# Altium footprint library Antenna.PcbLib: 2 footprints
Each footprint in its own frame and in the unit in brackets; x right, y up, seen from the top. Pads: shape width x height; smd on the part's side, far side on the other; paste and mask are expansions set on the pad; w line width, h text height; cw(c..) or ccw(c..) is an arc to the next point about the centre after c.
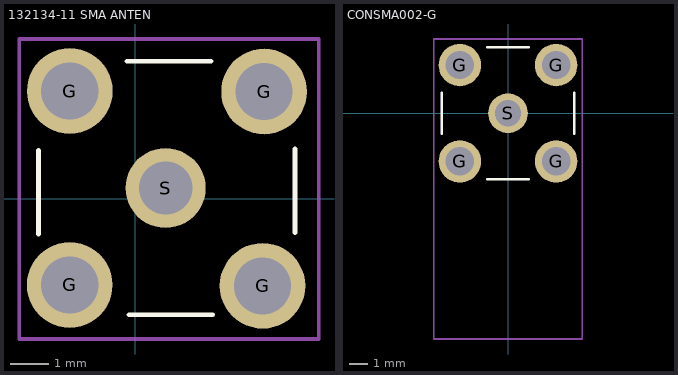
[diagram p0: the footprints below, top view; thin cyan lines are the x and y axes]

## 132134-11 SMA ANTEN [mm] "CONN SMA JACK STR 50 OHM PCB"
pads (5):
  round 2.25 hole 1.5: G(-1.723,-2.265) G(-1.722,2.826) G(3.339,-2.288) G(3.38,2.811)
  round 2.1 hole 1.4: S(0.794,0.278)
Top Overlay:
  lines w0.127: -2.54,-0.93 -2.54,1.27 ; -0.217,3.607 1.983,3.607 ; -0.168,-3.048 2.032,-3.048 ; 4.191,-0.889 4.191,1.311
Mechanical 15:
  lines w0.1: -3.047,-3.683 4.813,-3.683 4.813,4.191 -3.047,4.191 -3.047,-3.683
3D body "132134-11.stp": height 10, standoff -2.35, extent -2.386,-2.894 3.964,3.456

## CONSMA002-G [mm] "SMA Female Right Angle Through Hole Mount Connector"
pads (5):
  round 2.25 hole 1.5: G(-2.55,-2.55) G(-2.55,2.55) G(2.55,-2.55) G(2.55,2.55)
  round 2.1 hole 1.4: S(0,0)
Top Overlay:
  lines w0.127: -3.5,-1.1 -3.5,1.1 ; -1.1,-3.5 1.1,-3.5 ; -1.1,3.5 1.1,3.5 ; 3.5,-1.1 3.5,1.1
Mechanical 15:
  lines w0.1: -3.93,-11.95 -3.93,3.93 3.93,3.93 3.93,-11.95 -3.93,-11.95
3D body "step_temp.STEP": height 10.38, standoff -3.52, extent -3.469,-11.757 3.531,3.443